# Altium schematic symbol library CMMC.A1.SchLib: 1 symbol
Pins are listed as number, name and electrical type; pins without a type are passive.

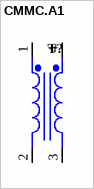
[diagram p0: symbol CMMC.A1]

## CMMC.A1
designator T?
pins: 1, 2, 3, 4